# Altium footprint library mva_Connector_Antena.PcbLib: 1 footprints
Each footprint in its own frame and in the unit in brackets; x right, y up, seen from the top. Pads: shape width x height; smd on the part's side, far side on the other; paste and mask are expansions set on the pad; w line width, h text height; cw(c..) or ccw(c..) is an arc to the next point about the centre after c.
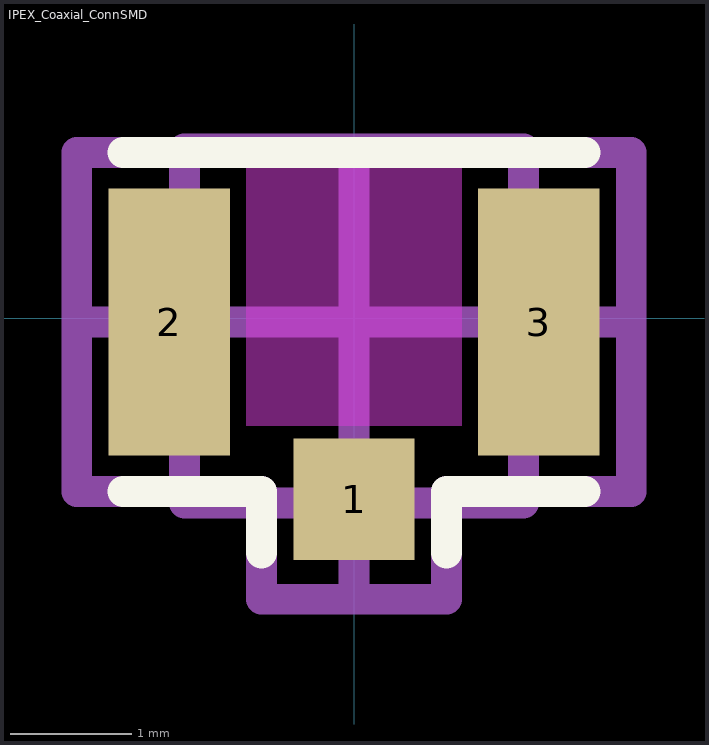
[diagram p0: the footprint, top view; thin cyan lines are the x and y axes]

## IPEX_Coaxial_ConnSMD [mm]
pads (3):
  rect 1x1 smd: 1(0,-1.492)
  rect 1x2.2 smd: 2(-1.524,-0.032) 3(1.524,-0.032)
Top Overlay:
  lines w0.254: -1.905,-1.429 -0.762,-1.429 -0.762,-1.937 ; -1.905,1.365 1.905,1.365 ; 0.762,-1.937 0.762,-1.429 1.905,-1.429
Keep-Out Layer:
  rectangle: -0.889,-0.889 0.889,1.27
Mechanical 13:
  lines w0.254: -1.397,-1.524 1.397,-1.524 1.397,1.397 -1.397,1.397 -1.397,-1.524
Mechanical 15:
  lines w0.254: -2.286,-0.032 2.286,-0.032 ; 0,-2.318 0,1.365 ; -2.286,-1.429 -0.762,-1.429 -0.762,-1.937 -0.762,-2.318 0.762,-2.318 0.762,-1.429 2.286,-1.429 2.286,1.365 -2.286,1.365 -2.286,-1.429
3D body "ipex_pcb.step": height 1.25, standoff 0, extent -1.5,-1.582 1.5,1.518